# Altium schematic symbol library 2019-05-29_05-12-58.SchLib: 2 symbols
Pins are listed as number, name and electrical type; pins without a type are passive.

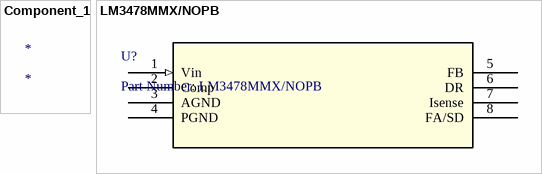
[diagram p0: symbols Component_1 to LM3478MMX/NOPB]

## Component_1
designator *

## LM3478MMX/NOPB
designator U?, comment Part Number: LM3478MMX/NOPB
No Description Available; Vendor: Texas Instruments; Built_By: EMA_UL_Team; Manufacturer_Part_Number: LM3478MMX/NOPB; Copyright: Copyright (C) 2018 Accelerated Designs. All rights reserved; RefDes: RefDes; Type: DEV; Value: Value
footprint MUA08A
pins: 1 Vin (in), 2 Comp, 3 AGND, 4 PGND, 5 FB, 6 DR (power), 7 Isense, 8 FA/SD